# Altium schematic symbol library Schlib1.SchLib: 1 symbol
Pins are listed as number, name and electrical type; pins without a type are passive.

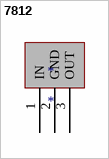
[diagram p0: symbol 7812]

## 7812
designator *
footprint 7812
pins: 1 IN, 2 GND, 3 OUT